# Altium footprint library BAT_BH-25C-1.PcbLib: 1 footprints
Each footprint in its own frame and in the unit in brackets; x right, y up, seen from the top. Pads: shape width x height; smd on the part's side, far side on the other; paste and mask are expansions set on the pad; w line width, h text height; cw(c..) or ccw(c..) is an arc to the next point about the centre after c.
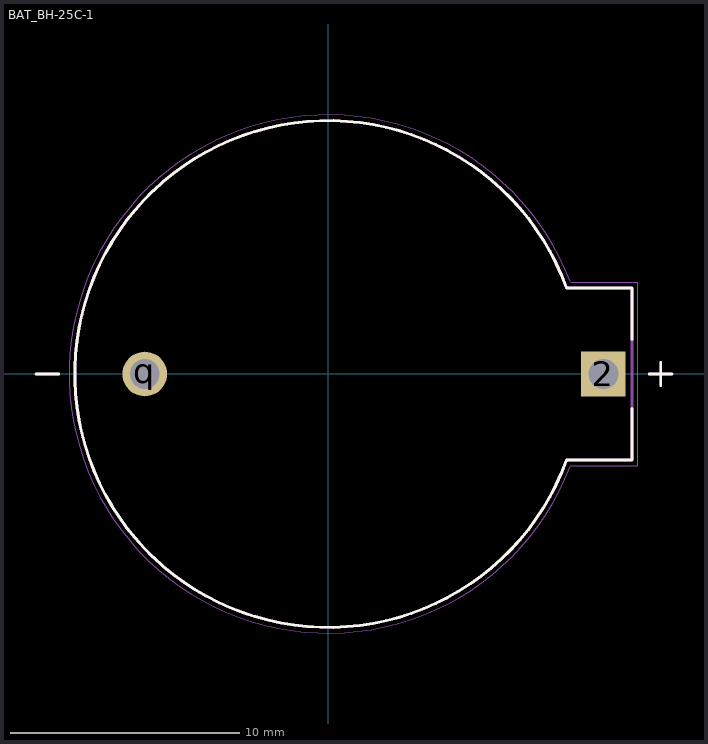
[diagram p0: the footprint, top view; thin cyan lines are the x and y axes]

## BAT_BH-25C-1 [mm]
height 8.7
pads (2):
  rect 1.95x1.95 / inner round 1.95 / far side rect 1.95x1.95 hole 1.3: 2(12,0)
  round 1.95 hole 1.3: q(-8,0)
Top Overlay:
  lines w0.127: -12.75,0 -11.75,0 ; 10.384,-3.779 cw(c0.001,0) 10.384,3.779 ; 10.394,-3.75 13.25,-3.75 13.25,-1.5 ; 10.394,3.75 13.25,3.75 13.25,1.5 ; 14,0 15,0 ; 14.5,-0.5 14.5,0.5
Mechanical 13:
  lines w0.127: -12.75,0 -11.75,0 ; 10.384,-3.779 cw(c0.001,0) 10.384,3.779 ; 10.394,-3.75 13.25,-3.75 13.25,3.75 10.394,3.75 ; 14,0 15,0 ; 14.5,-0.5 14.5,0.5
Mechanical 15:
  lines w0.05: 10.549,-4.05 cw(c-0.001,0) 10.549,4.05 ; 10.568,-4 13.5,-4 13.5,4 10.568,4